# Altium footprint library lilfoot.PcbLib: 2 footprints
Each footprint in its own frame and in the unit in brackets; x right, y up, seen from the top. Pads: shape width x height; smd on the part's side, far side on the other; paste and mask are expansions set on the pad; w line width, h text height; cw(c..) or ccw(c..) is an arc to the next point about the centre after c.
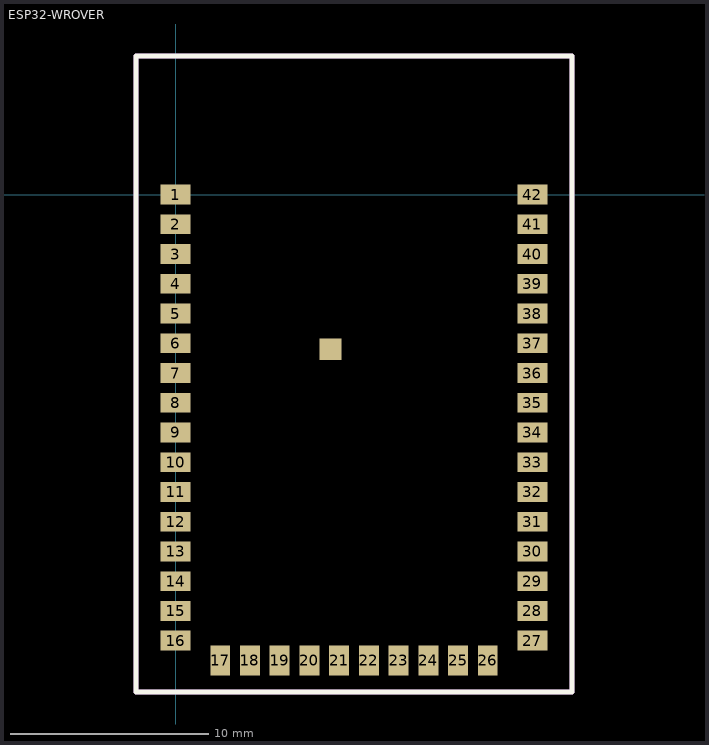
[diagram p0: the footprints below, top view; thin cyan lines are the x and y axes]

## ESP32-WROVER [mm]
pads (43):
  rect 1.5x1 smd: 1(0,0) 2(0,-1.5) 3(0,-3) 4(0,-4.5) 5(0,-6) 6(0,-7.5) 7(0,-9) 8(0,-10.5) 9(0,-12) 10(0,-13.5) 11(0,-15) 12(0,-16.5) 13(0,-18) 14(0,-19.5) 15(0,-21) 16(0,-22.5) 27(18,-22.5) 28(18,-21) 29(18,-19.5) 30(18,-18) 31(18,-16.5) 32(18,-15) 33(18,-13.5) 34(18,-12) 35(18,-10.5) 36(18,-9) 37(18,-7.5) 38(18,-6) 39(18,-4.5) 40(18,-3) 41(18,-1.5) 42(18,0)
  rect 1x1.5 smd: 17(2.25,-23.5) 18(3.75,-23.5) 19(5.25,-23.5) 20(6.75,-23.5) 21(8.25,-23.5) 22(9.75,-23.5) 23(11.25,-23.5) 24(12.75,-23.5) 25(14.25,-23.5) 26(15.75,-23.5)
  rect 1.1x1.1 smd: ""(7.81,-7.8)
Top Overlay:
  lines w0.254: -2,-25.1 20,-25.1 20,-24.5 20,7 -2,7 -2,-25.1
Mechanical 1:
  lines w0.254: -2,-25.1 20,-25.1 20,7 -2,7 -2,-25.1

## PCBComponent_1 [mm]